# Altium schematic symbol library DIODE,TVS,495VWM,SMD.Schlib: 1 symbol
Pins are listed as number, name and electrical type; pins without a type are passive.

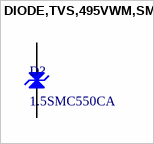
[diagram p0: symbol DIODE,TVS,495VWM,SMD]

## DIODE,TVS,495VWM,SMD
designator D?, comment 1.5SMC550CA
760V Clamp 2A Ipp Tvs Diode Surface Mount DO-214AB (SMCJ)
pins: 1 K, 2 A